# Altium footprint library OltestLib_popadjuk.PcbLib: 113 footprints (part 7 of 8)
Each footprint in its own frame and in the unit in brackets; x right, y up, seen from the top. Pads: shape width x height; smd on the part's side, far side on the other; paste and mask are expansions set on the pad; w line width, h text height; cw(c..) or ccw(c..) is an arc to the next point about the centre after c.
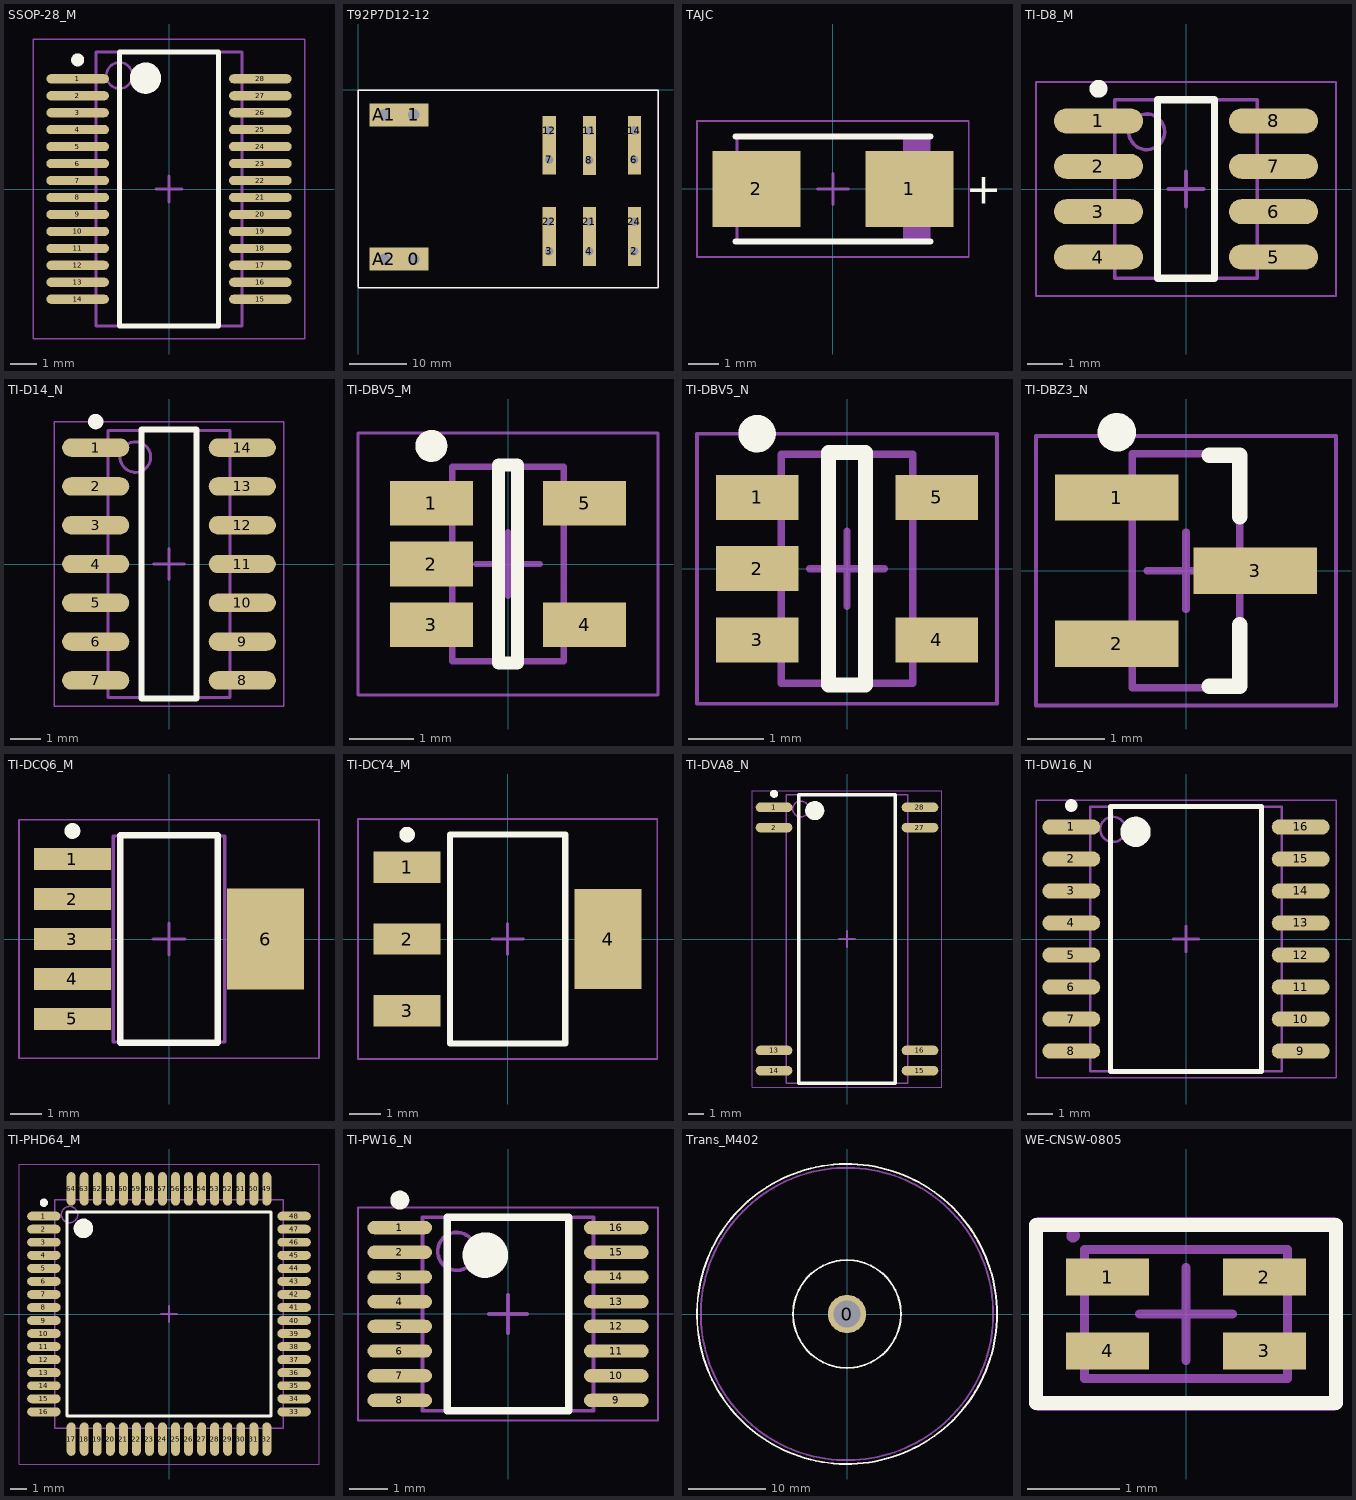
[diagram p6: the footprints below, top view; thin cyan lines are the x and y axes]

## SSOP-28_M [mm] "SOP, 28-Leads, Body 10.2x5.3mm, Pitch 0.65mm, IPC Low Density"
height 2
pads (28):
  oval 2.4x0.35 smd: 1(-3.5,4.225) 2(-3.5,3.575) 3(-3.5,2.925) 4(-3.5,2.275) 5(-3.5,1.625) 6(-3.5,0.975) 7(-3.5,0.325) 8(-3.5,-0.325) 9(-3.5,-0.975) 10(-3.5,-1.625) 11(-3.5,-2.275) 12(-3.5,-2.925) 13(-3.5,-3.575) 14(-3.5,-4.225) 15(3.5,-4.225) 16(3.5,-3.575) 17(3.5,-2.925) 18(3.5,-2.275) 19(3.5,-1.625) 20(3.5,-0.975) 21(3.5,-0.325) 22(3.5,0.325) 23(3.5,0.975) 24(3.5,1.625) 25(3.5,2.275) 26(3.5,2.925) 27(3.5,3.575) 28(3.5,4.225)
Top Overlay:
  circle w0.6: c-0.9,4.25 r0.3
  circle w0.25: c-3.5,4.95 r0.125
  lines w0.2: -1.9,-5.25 1.9,-5.25 1.9,5.25 -1.9,5.25 -1.9,-5.25
Mechanical 13:
  circle w0.1: c-1.9,4.35 r0.5
  lines w0.1: -2.8,-5.25 2.8,-5.25 2.8,5.25 -2.8,5.25 -2.8,-5.25
Mechanical 15:
  lines w0.05: -5.2,-5.75 5.2,-5.75 5.2,5.75 -5.2,5.75 -5.2,-5.75
  lines w0.1: -0.5,0 0.5,0 ; 0,-0.5 0,0.5
3D body: height 2, standoff 0.05, extent -2.8,-5.25 2.8,5.25

## T92P7D12-12 [mm] "T92P7D12-12"
height 30.8
pads (16):
  rect 5.15x4 hole 2: 0(9.725,-29.6) 1(9.725,-4.375) A1(4.575,-4.375) A2(4.575,-29.6)
  rect 2.3x5.15 hole 1.5: 2(48.35,-28.225) 3(33.45,-28.225) 4(40.475,-28.25) 6(48.35,-12.25) 7(33.45,-12.25) 8(40.475,-12.275) 11(40.475,-7.125) 12(33.45,-7.1) 14(48.35,-7.1) 21(40.475,-23.1) 22(33.45,-23.075) 24(48.35,-23.075)
Top Overlay:
  lines w0.254: -0.025,-34.65 52.475,-34.65 ; -0.025,-34.525 -0.025,-0.025 52.475,-0.025 52.475,-0.525 52.475,-34.525
Mechanical 13:
  lines w0.254: -0.025,-34.525 -0.025,-0.025 52.475,-0.025 52.475,-34.525 ; 2.575,-30.7 2.575,-28.7 11.575,-28.7 11.575,-30.7 2.575,-30.7 ; 2.575,-5.375 2.575,-3.375 11.575,-3.375 11.575,-5.375 2.575,-5.375 ; 32.65,-29.975 32.65,-21.475 34.15,-21.475 34.15,-29.975 32.65,-29.975 ; 32.65,-13.975 32.65,-13.475 32.65,-5.475 34.15,-5.475 34.15,-5.975 34.15,-13.975 32.65,-13.975 ; 39.825,-30 39.825,-21.5 41.325,-21.5 41.325,-30 39.825,-30 ; 39.825,-14 39.825,-5.5 41.325,-5.5 41.325,-14 39.825,-14 ; 47.7,-29.975 49.2,-29.975 49.2,-21.475 47.7,-21.475 47.7,-29.975 ; 47.7,-13.975 49.2,-13.975 49.2,-5.475 47.7,-5.475 47.7,-13.975
3D body: height 3, standoff 0, extent 47.701,-13.974 49.199,-5.476
3D body: height 3, standoff 0, extent 47.701,-29.974 49.199,-21.476
3D body: height 3, standoff 0, extent 2.576,-5.374 11.574,-3.376
3D body: height 3, standoff 0, extent 32.651,-29.974 34.149,-21.476
3D body: height 3, standoff 0, extent 39.826,-29.999 41.324,-21.501
3D body: height 3, standoff 0, extent 32.651,-13.974 34.149,-5.476
3D body: height 3, standoff 0, extent 39.826,-13.999 41.324,-5.501
3D body: height 27.8, standoff 3, extent -0.152,-34.652 52.602,0.102
3D body: height 3, standoff 0, extent 2.576,-30.699 11.574,-28.701
3D body: height 3, standoff 0, extent 2.576,-30.699 11.574,-28.701

## TAJC [mm] "Molded Capacitor, 2-Leads, Body 6,00x3,25mm, IPC Low Density"
height 2.6
pads (2):
  rect 2.85x2.45 smd: 1(2.475,0) 2(-2.475,0)
Top Overlay:
  lines w0.2: -3.15,-1.7 3.15,-1.7 ; -3.15,1.7 3.15,1.7
  text "+" at 4.293,-0.483 h1.02
Mechanical 13:
  rectangle: 2.266,-1.7 3.1,1.7
  lines w0.1: -3.1,-1.7 -3.1,1.7 3.1,1.7 3.1,-1.7 -3.1,-1.7
Mechanical 15:
  lines w0.05: -4.4,-2.2 -4.4,2.2 4.4,2.2 4.4,-2.2 -4.4,-2.2
  lines w0.1: -0.5,0 0.5,0 ; 0,-0.5 0,0.5
3D body "CAPMP6032X26M.step": height 2.6, standoff 0, extent -3.32,-1.7 3.32,1.7

## TI-D8_M [mm] "SOIC, 8-Leads, Body 4.9x3.9mm, Pitch 1.27mm, IPC Low Density"
height 1.75
pads (8):
  oval 2.5x0.7 smd: 1(-2.45,1.905) 2(-2.45,0.635) 3(-2.45,-0.635) 4(-2.45,-1.905) 5(2.45,-1.905) 6(2.45,-0.635) 7(2.45,0.635) 8(2.45,1.905)
Top Overlay:
  circle w0.25: c-2.45,2.805 r0.125
  lines w0.2: -0.8,-2.5 -0.8,2.5 0.8,2.5 0.8,-2.5 -0.8,-2.5
Mechanical 13:
  circle w0.1: c-1.1,1.6 r0.5
  lines w0.1: -2,-2.5 -2,2.5 2,2.5 2,-2.5 -2,-2.5
Mechanical 15:
  lines w0.05: -4.2,-3 -4.2,3 4.2,3 4.2,-3 -4.2,-3
  lines w0.1: -0.5,0 0.5,0 ; 0,-0.5 0,0.5
3D body: height 1.75, standoff 0.1, extent -2,-2.5 2,2.5

## TI-D14_N [mm] "SOIC, 14-Leads, Body 8.75x4mm, Pitch 1.27mm, IPC Medium Density"
height 1.75
pads (14):
  oval 2.2x0.6 smd: 1(-2.4,3.81) 2(-2.4,2.54) 3(-2.4,1.27) 4(-2.4,0) 5(-2.4,-1.27) 6(-2.4,-2.54) 7(-2.4,-3.81) 8(2.4,-3.81) 9(2.4,-2.54) 10(2.4,-1.27) 11(2.4,0) 12(2.4,1.27) 13(2.4,2.54) 14(2.4,3.81)
Top Overlay:
  circle w0.25: c-2.4,4.66 r0.125
  lines w0.2: -0.9,-4.4 0.9,-4.4 0.9,4.4 -0.9,4.4 -0.9,-4.4
Mechanical 13:
  circle w0.1: c-1.1,3.5 r0.5
  lines w0.1: -2,-4.375 2,-4.375 2,4.375 -2,4.375 -2,-4.375
Mechanical 15:
  lines w0.05: -3.75,-4.65 3.75,-4.65 3.75,4.65 -3.75,4.65 -3.75,-4.65
  lines w0.1: -0.5,0 0.5,0 ; 0,-0.5 0,0.5
3D body: height 1.75, standoff 0.1, extent -2,-4.375 2,4.375

## TI-DBV5_M [mm] "SOT23, 5-Leads, Body 2.9x1.6mm, Pitch 0.95mm, IPC Low Density"
height 1.45
pads (5):
  rect 1.3x0.7 smd: 1(-1.2,0.95) 2(-1.2,0) 3(-1.2,-0.95) 4(1.2,-0.95) 5(1.2,0.95)
Top Overlay:
  circle w0.25: c-1.2,1.85 r0.125
  lines w0.2: -0.15,-1.55 -0.15,1.55 0.15,1.55 0.15,-1.55 -0.15,-1.55
Mechanical 13:
  lines w0.1: -0.875,-1.525 0.875,-1.525 0.875,1.525 -0.875,1.525 -0.875,-1.525
Mechanical 15:
  lines w0.05: -2.35,-2.05 2.35,-2.05 2.35,2.05 -2.35,2.05 -2.35,-2.05
  lines w0.1: -0.5,0 0.5,0 ; 0,-0.5 0,0.5
3D body: height 1.45, standoff 0, extent -0.875,-1.525 0.875,1.525

## TI-DBV5_N [mm] "SOT23, 5-Leads, Body 2.9x1.6mm, Pitch 0.95mm, IPC Medium Density"
height 1.45
pads (5):
  rect 1.1x0.6 smd: 1(-1.2,0.95) 2(-1.2,0) 3(-1.2,-0.95) 4(1.2,-0.95) 5(1.2,0.95)
Top Overlay:
  circle w0.25: c-1.2,1.8 r0.125
  lines w0.2: -0.25,-1.55 0.25,-1.55 0.25,1.55 -0.25,1.55 -0.25,-1.55
Mechanical 13:
  lines w0.1: -0.875,-1.525 -0.875,1.525 0.875,1.525 0.875,-1.525 -0.875,-1.525
Mechanical 15:
  lines w0.05: -2,-1.8 -2,1.8 2,1.8 2,-1.8 -2,-1.8
  lines w0.1: -0.5,0 0.5,0 ; 0,-0.5 0,0.5
3D body: height 1.45, standoff 0, extent -0.875,-1.525 0.875,1.525

## TI-DBZ3_N [mm] "SOT23, 3-Leads, Body 2.92x1.3 mm, Pitch 0.95 mm, IPC Medium Density"
height 1.12
pads (3):
  rect 1.6x0.6 smd: 1(-0.9,0.95) 2(-0.9,-0.95) 3(0.9,0)
Top Overlay:
  circle w0.25: c-0.9,1.8 r0.125
  lines w0.2: 0.3,-1.5 0.7,-1.5 0.7,-0.7 ; 0.3,1.5 0.7,1.5 0.7,0.7
Mechanical 13:
  lines w0.1: -0.7,-1.52 0.7,-1.52 0.7,1.52 -0.7,1.52 -0.7,-1.52
Mechanical 15:
  lines w0.05: -1.95,-1.75 1.95,-1.75 1.95,1.75 -1.95,1.75 -1.95,-1.75
  lines w0.1: -0.5,0 0.5,0 ; 0,-0.5 0,0.5
3D body: height 1.12, standoff 0.01, extent -0.7,-1.52 0.7,1.52

## TI-DCQ6_M [mm] "SOT223, 6-Leads, Body 6.5x3.5mm, Pitch 1.27mm, IPC Low Density"
height 1.8
pads (6):
  rect 2.45x0.7 smd: 1(-3.075,2.54) 2(-3.075,1.27) 3(-3.075,0) 4(-3.075,-1.27) 5(-3.075,-2.54)
  rect 2.45x3.2 smd: 6(3.075,0)
Top Overlay:
  circle w0.25: c-3.075,3.44 r0.125
  lines w0.2: -1.55,-3.3 -1.55,3.3 1.55,3.3 1.55,-3.3 -1.55,-3.3
Mechanical 13:
  lines w0.1: -1.775,-3.275 -1.775,3.275 1.775,3.275 1.775,-3.275 -1.775,-3.275
Mechanical 15:
  lines w0.05: -4.775,-3.8 -4.775,3.8 4.775,3.8 4.775,-3.8 -4.775,-3.8
  lines w0.1: -0.5,0 0.5,0 ; 0,-0.5 0,0.5
3D body: height 1.8, standoff 0.02, extent -1.775,-3.275 1.775,3.275

## TI-DCY4_M [mm] "SOT223, 4-Leads, Body 6.5x3.5mm, Pitch 2.3mm, IPC Low Density"
height 1.8
pads (4):
  rect 2.15x1 smd: 1(-3.225,2.3) 2(-3.225,0) 3(-3.225,-2.3)
  rect 2.15x3.2 smd: 4(3.225,0)
Top Overlay:
  circle w0.25: c-3.225,3.35 r0.125
  lines w0.2: -1.85,-3.35 1.85,-3.35 1.85,3.35 -1.85,3.35 -1.85,-3.35
Mechanical 13:
  lines w0.1: -1.85,-3.35 1.85,-3.35 1.85,3.35 -1.85,3.35 -1.85,-3.35
Mechanical 15:
  lines w0.05: -4.8,-3.85 4.8,-3.85 4.8,3.85 -4.8,3.85 -4.8,-3.85
  lines w0.1: -0.5,0 0.5,0 ; 0,-0.5 0,0.5
3D body: height 1.8, standoff 0.02, extent -1.85,-3.35 1.85,3.35

## TI-DVA8_N [mm] "SOIC, 8-Leads, Body 17.9x7.5mm, Pitch 1.27mm, IPC Medium Density"
height 2.65
pads (8):
  oval 2.3x0.6 smd: 1(-4.575,8.255) 2(-4.575,6.985) 13(-4.575,-6.985) 14(-4.575,-8.255) 15(4.575,-8.255) 16(4.575,-6.985) 27(4.575,6.985) 28(4.575,8.255)
Top Overlay:
  circle w0.6: c-2.025,8.05 r0.3
  circle w0.25: c-4.575,9.105 r0.125
  lines w0.2: -3.025,-9.05 3.025,-9.05 3.025,9.05 -3.025,9.05 -3.025,-9.05
Mechanical 13:
  circle w0.1: c-2.9,8.15 r0.5
  lines w0.1: -3.8,-9.05 3.8,-9.05 3.8,9.05 -3.8,9.05 -3.8,-9.05
Mechanical 15:
  lines w0.05: -5.95,-9.3 5.95,-9.3 5.95,9.3 -5.95,9.3 -5.95,-9.3
  lines w0.1: -0.5,0 0.5,0 ; 0,-0.5 0,0.5
3D body: height 2.65, standoff 0.1, extent -3.8,-9.05 3.8,9.05

## TI-DW16_N [mm] "SOIC, 16-Leads, Body 10.5x7.6mm, Pitch 1.27mm, IPC Medium Density"
height 2.65
pads (16):
  oval 2.3x0.6 smd: 1(-4.55,4.445) 2(-4.55,3.175) 3(-4.55,1.905) 4(-4.55,0.635) 5(-4.55,-0.635) 6(-4.55,-1.905) 7(-4.55,-3.175) 8(-4.55,-4.445) 9(4.55,-4.445) 10(4.55,-3.175) 11(4.55,-1.905) 12(4.55,-0.635) 13(4.55,0.635) 14(4.55,1.905) 15(4.55,3.175) 16(4.55,4.445)
Top Overlay:
  circle w0.6: c-2,4.25 r0.3
  circle w0.25: c-4.55,5.295 r0.125
  lines w0.2: -3,-5.25 3,-5.25 3,5.25 -3,5.25 -3,-5.25
Mechanical 13:
  circle w0.1: c-2.9,4.35 r0.5
  lines w0.1: -3.8,-5.25 3.8,-5.25 3.8,5.25 -3.8,5.25 -3.8,-5.25
Mechanical 15:
  lines w0.05: -5.95,-5.5 5.95,-5.5 5.95,5.5 -5.95,5.5 -5.95,-5.5
  lines w0.1: -0.5,0 0.5,0 ; 0,-0.5 0,0.5
3D body: height 2.65, standoff 0.1, extent -3.8,-5.25 3.8,5.25

## TI-PHD64_M [mm] "QFP, 64-Leads, Body 14x14mm, Pitch 0.8mm, IPC Low Density"
height 1.2
pads (64):
  oval 2.05x0.55 smd: 1(-7.675,6) 2(-7.675,5.2) 3(-7.675,4.4) 4(-7.675,3.6) 5(-7.675,2.8) 6(-7.675,2) 7(-7.675,1.2) 8(-7.675,0.4) 9(-7.675,-0.4) 10(-7.675,-1.2) 11(-7.675,-2) 12(-7.675,-2.8) 13(-7.675,-3.6) 14(-7.675,-4.4) 15(-7.675,-5.2) 16(-7.675,-6) 33(7.675,-6) 34(7.675,-5.2) 35(7.675,-4.4) 36(7.675,-3.6) 37(7.675,-2.8) 38(7.675,-2) 39(7.675,-1.2) 40(7.675,-0.4) 41(7.675,0.4) 42(7.675,1.2) 43(7.675,2) 44(7.675,2.8) 45(7.675,3.6) 46(7.675,4.4) 47(7.675,5.2) 48(7.675,6)
  oval 0.55x2.05 smd: 17(-6,-7.675) 18(-5.2,-7.675) 19(-4.4,-7.675) 20(-3.6,-7.675) 21(-2.8,-7.675) 22(-2,-7.675) 23(-1.2,-7.675) 24(-0.4,-7.675) 25(0.4,-7.675) 26(1.2,-7.675) 27(2,-7.675) 28(2.8,-7.675) 29(3.6,-7.675) 30(4.4,-7.675) 31(5.2,-7.675) 32(6,-7.675) 49(6,7.675) 50(5.2,7.675) 51(4.4,7.675) 52(3.6,7.675) 53(2.8,7.675) 54(2,7.675) 55(1.2,7.675) 56(0.4,7.675) 57(-0.4,7.675) 58(-1.2,7.675) 59(-2,7.675) 60(-2.8,7.675) 61(-3.6,7.675) 62(-4.4,7.675) 63(-5.2,7.675) 64(-6,7.675)
Top Overlay:
  circle w0.25: c-7.675,6.825 r0.125
  circle w0.6: c-5.25,5.25 r0.3
  lines w0.2: -6.25,-6.25 -6.25,6.25 6.25,6.25 6.25,-6.25 -6.25,-6.25
Mechanical 13:
  circle w0.1: c-6.1,6.1 r0.5
  lines w0.1: -7,-7 -7,7 7,7 7,-7 -7,-7
Mechanical 15:
  lines w0.05: -9.2,-9.2 -9.2,9.2 9.2,9.2 9.2,-9.2 -9.2,-9.2
  lines w0.1: -0.5,0 0.5,0 ; 0,-0.5 0,0.5
3D body: height 1.2, standoff 0.05, extent -7,-7 7,7

## TI-PW16_N [mm] "SOP, 16-Leads, Body 5x4.4mm, Pitch 0.65mm, IPC Medium Density"
height 1.2
pads (16):
  oval 1.7x0.35 smd: 1(-2.85,2.275) 2(-2.85,1.625) 3(-2.85,0.975) 4(-2.85,0.325) 5(-2.85,-0.325) 6(-2.85,-0.975) 7(-2.85,-1.625) 8(-2.85,-2.275) 9(2.85,-2.275) 10(2.85,-1.625) 11(2.85,-0.975) 12(2.85,-0.325) 13(2.85,0.325) 14(2.85,0.975) 15(2.85,1.625) 16(2.85,2.275)
Top Overlay:
  circle w0.25: c-2.85,3 r0.125
  circle w0.6: c-0.6,1.55 r0.3
  lines w0.2: -1.6,-2.55 -1.6,2.55 1.6,2.55 1.6,-2.55 -1.6,-2.55
Mechanical 13:
  circle w0.1: c-1.35,1.65 r0.5
  lines w0.1: -2.25,-2.55 -2.25,2.55 2.25,2.55 2.25,-2.55 -2.25,-2.55
Mechanical 15:
  lines w0.05: -3.95,-2.8 -3.95,2.8 3.95,2.8 3.95,-2.8 -3.95,-2.8
  lines w0.1: -0.5,0 0.5,0 ; 0,-0.5 0,0.5
3D body: height 1.2, standoff 0.05, extent -2.25,-2.55 2.25,2.55

## Trans_M402 [mm]
height 17
pads (1):
  round 5 hole 3.5: 0(0,0)
Top Overlay:
  circle w0.254: c0,0 r7
  circle w0.254: c0,0 r19.5
Mechanical 13:
  circle w0.254: c0,0 r19.007
3D body: height 17, standoff 0, extent -19.006,-19.006 19.006,19.006

## WE-CNSW-0805 [mm] "SMD Inductor, 4-Leads, Body 1.4x2.2x1.4 mm"
height 1.4
pads (4):
  rect 0.9x0.4 smd: 1(-0.85,0.4) 2(0.85,0.4) 3(0.85,-0.4) 4(-0.85,-0.4)
Top Overlay:
  lines w0.152: -1.626,-0.965 -1.626,0.965 1.626,0.965 1.626,-0.965 -1.626,-0.965
Mechanical 13:
  circle w0.1: c-1.224,0.85 r0.024
  lines w0.1: -1.1,-0.7 1.1,-0.7 1.1,0.7 -1.1,0.7 -1.1,-0.7
Mechanical 15:
  lines w0.1: -0.5,0 0.5,0 ; 0,-0.5 0,0.5 ; -1.6,-1 1.6,-1 1.6,1 -1.6,1 -1.6,-1
3D body "744231371.stp": height 1.18, standoff -0.02, extent -1,-0.6 1,0.6